# EAGLE library part 737-712 (library con-wago_737)
Serie 737, Dreistock-Klemmenleiste für Leiterplatten 3 Lötstifte in Reihe / Series 737, Triple-deck PCB terminal strip 3 solder pins, in line Polzahl / Pole No.: 12 Rastermaß / Pitch: 10 mm Bemessungsspannung / Rated Voltage: 1000 V Nennstrom / Nominal Current: 21 A Leiterquerschnitt / Conductor Size: 0.08 - 2.5 mm² Anschlusstechnik / Connection Technology: CAGE CLAMP® Lötstiftlänge: / Solder Pin Length: 4 mm Leitereinführung (zur Platine) / Conductor entry angle (to PCB): 45 ° Farbe / Color: grau / gray Stand: 01.01.2012. Die jeweils aktuellen Daten zu diesem Artikel finden Sie in unserem Produktkatalog, den Sie unter www.wago.com einsehen können. As of: 01/01/2012. Please find the newest data for this article in our product catalogue, which can be viewed under www.wago.com.
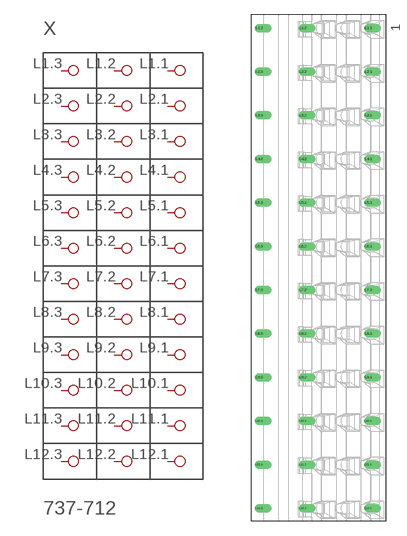
[diagram p35: symbol with the pads of P-737-712; footprint P-737-712]

Designator prefix X

## 737-712  [P-737-712]
L1.1  P1.1
L1.2  P1.2
L1.3  P1.3
L2.1  P2.1
L2.2  P2.2
L2.3  P2.3
L3.1  P3.1
L3.2  P3.2
L3.3  P3.3
L4.1  P4.1
L4.2  P4.2
L4.3  P4.3
L5.1  P5.1
L5.2  P5.2
L5.3  P5.3
L6.1  P6.1
L6.2  P6.2
L6.3  P6.3
L7.1  P7.1
L7.2  P7.2
L7.3  P7.3
L8.1  P8.1
L8.2  P8.2
L8.3  P8.3
L9.1  P9.1
L9.2  P9.2
L9.3  P9.3
L10.1  P10.1
L10.2  P10.2
L10.3  P10.3
L11.1  P11.1
L11.2  P11.2
L11.3  P11.3
L12.1  P12.1
L12.2  P12.2
L12.3  P12.3

## Footprint P-737-712 (pad centres in mm)
drill 1.3 offset: L1.1 11.4,54.9; L1.2 -3.6,54.9; L1.3 -13.6,54.9; L2.1 11.4,44.9; L2.2 -3.6,44.9; L2.3 -13.6,44.9; L3.1 11.4,34.9; L3.2 -3.6,34.9; L3.3 -13.6,34.9; L4.1 11.4,24.9; L4.2 -3.6,24.9; L4.3 -13.6,24.9; L5.1 11.4,14.9; L5.2 -3.6,14.9; L5.3 -13.6,14.9; L6.1 11.4,4.9; L6.2 -3.6,4.9; L6.3 -13.6,4.9; L7.1 11.4,-5.1; L7.2 -3.6,-5.1; L7.3 -13.6,-5.1; L8.1 11.4,-15.1; L8.2 -3.6,-15.1; L8.3 -13.6,-15.1; L9.1 11.4,-25.1; L9.2 -3.6,-25.1; L9.3 -13.6,-25.1; L10.1 11.4,-35.1; L10.2 -3.6,-35.1; L10.3 -13.6,-35.1; L11.1 11.4,-45.1; L11.2 -3.6,-45.1; L11.3 -13.6,-45.1; L12.1 11.4,-55.1; L12.2 -3.6,-55.1; L12.3 -13.6,-55.1